# EAGLE library part A4988-MODULE (library Open-Pull-Lib)
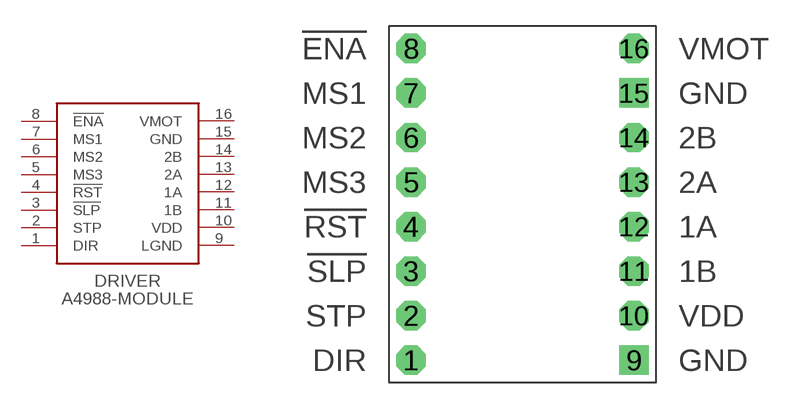
[diagram p1: symbol with the pads of POLULU-A4988; footprint POLULU-A4988]

Designator prefix DRIVER

## A4988-MODULE  [POLULU-A4988]
1  DIR
2  STP
3  !SLP
4  !RST
5  MS3
6  MS2
7  MS1
8  !ENA
9  LGND  sup
10  VDD  pwr
11  1B
12  1A
13  2A
14  2B
15  GND  sup
16  VMOT  pwr

## Footprint POLULU-A4988 (pad centres in mm)
drill 1.016 pad 1.676 octagon: 1 1.27,1.27; 2 1.27,3.81; 3 1.27,6.35; 4 1.27,8.89; 5 1.27,11.43; 6 1.27,13.97; 7 1.27,16.51; 8 1.27,19.05; 10 13.97,3.81; 11 13.97,6.35; 12 13.97,8.89; 13 13.97,11.43; 14 13.97,13.97; 16 13.97,19.05
drill 1.016 pad 1.676 square: 9 13.97,1.27; 15 13.97,16.51